# Altium footprint library Buzzer.PcbLib: 1 footprints
Each footprint in its own frame and in the unit in brackets; x right, y up, seen from the top. Pads: shape width x height; smd on the part's side, far side on the other; paste and mask are expansions set on the pad; w line width, h text height; cw(c..) or ccw(c..) is an arc to the next point about the centre after c.
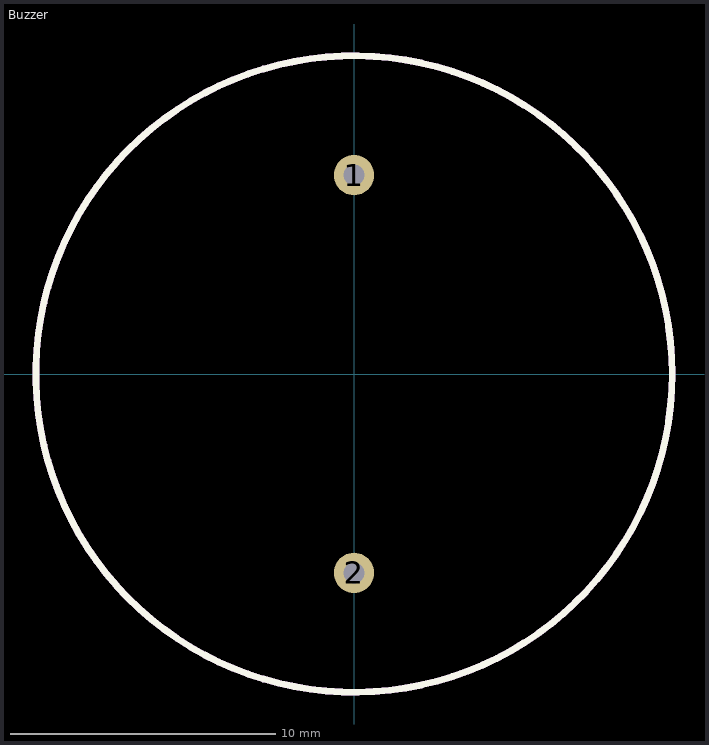
[diagram p0: the footprint, top view; thin cyan lines are the x and y axes]

## Buzzer [mil]
pads (2):
  round 60 hole 31.5: 1(0,295.28) 2(0,-295.28)
Top Overlay:
  circle w10: c0,0 r472.44
Mechanical 1:
  circle w10: c0,0 r472.44
3D body: height 334.65, standoff 0, extent -15.62,-310.99 15.75,-279.56
3D body: height 334.65, standoff 0, extent -15.75,279.56 15.62,311
3D body: height 280.29, standoff -43.31, extent 0,314.96 0,314.96
3D body: height 280.29, standoff -43.31, extent 0,314.96 0,314.96
3D body: height 374.02, standoff 0, extent -472.44,-472.3 472.45,472.32
3D body: height 280.29, standoff -43.31, extent 354.33,118.11 354.33,118.11
3D body: height 280.29, standoff -43.31, extent 0,0 0,0